# EAGLE library part SIL_JTAG (library ++Bedrahtet)
JTAG Anschluss des Grasshopper
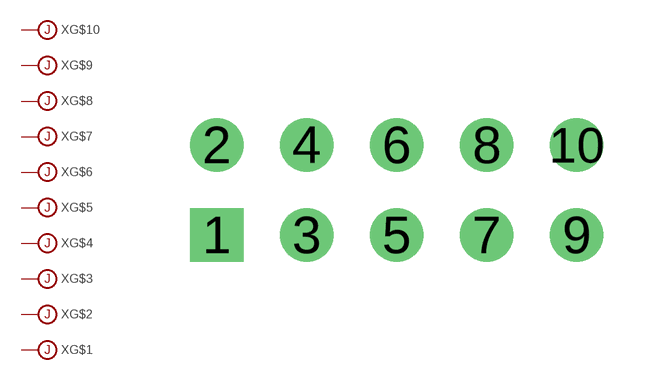
[diagram p10: symbol with the pads of SIL_2X5_SOLDER; footprint SIL_2X5_SOLDER]

Designator prefix X; gates G$1=J G$2=J G$3=J G$4=J G$5=J G$6=J G$7=J G$8=J G$9=J G$10=J

## SIL_JTAG  [SIL_2X5_SOLDER]
1  G$1:P$1
2  G$2:P$1
3  G$3:P$1
4  G$4:P$1
5  G$5:P$1
6  G$6:P$1
7  G$7:P$1
8  G$8:P$1
9  G$9:P$1
10  G$10:P$1

## Footprint SIL_2X5_SOLDER (pad centres in mm)
drill 1 square: 1 0,0
drill 1: 2 0,2.54; 3 2.54,0; 4 2.54,2.54; 5 5.08,0; 6 5.08,2.54; 7 7.62,0; 8 7.62,2.54; 9 10.16,0; 10 10.16,2.54